# EAGLE library part IAUCN04S7L028ATMA1 (library IAUCN04S7L028ATMA1)
MOSFET MOSFET_(20V 40V) Source: Datasheet <https://www.infineon.com/dgdl/Infineon-IAUCN04S7L028-DataSheet-v01_00-EN.pdf?fileId=8ac78c8c8d2fe47b018d35eccb611a5a>
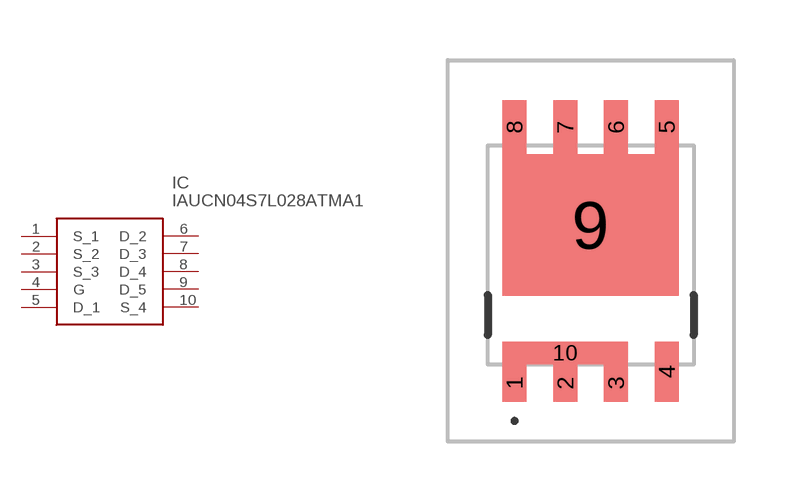
[diagram p0: symbol with the pads of IAUC120N06S5N011ATMA1; footprint IAUC120N06S5N011ATMA1]

Designator prefix IC

## IAUCN04S7L028ATMA1 (Description: MOSFET MOSFET_(20V 40V); Height: 1.1mm; Manufacturer_Name: Infineon; Manufacturer_Part_Number: IAUCN04S7L028ATMA1; Mouser_Part_Number: 726-IAUCN04S7L028ATM; Mouser_Price-Stock: https://www.mouser.co.uk/ProductDetail/Infineon-Technologies/IAUCN04S7L028ATMA1?qs=mELouGlnn3deeHozE86VbA%3D%3D)  [IAUC120N06S5N011ATMA1]
1  S_1
2  S_2
3  S_3
4  G
5  D_1
6  D_2
7  D_3
8  D_4
9  D_5
10  S_4

## Footprint IAUC120N06S5N011ATMA1 (pad centres in mm)
PG-TDSON-8-53 | SSO8
smd 0.6 x 0.935: 1 -1.905,-3.199; 2 -0.635,-3.199; 3 0.635,-3.199
smd 0.6 x 1.5: 4 1.905,-2.916
smd 0.6 x 1.35: 5 1.905,3.199; 6 0.635,3.199; 7 -0.635,3.199; 8 -1.905,3.199
smd 4.41 x 3.545: 9 0,0.751
smd 3.14 x 0.565: 10 -0.635,-2.449